# Altium footprint library QUTMS_PCBLibrary.PcbLib: 32 footprints (part 2 of 2)
Each footprint in its own frame and in the unit in brackets; x right, y up, seen from the top. Pads: shape width x height; smd on the part's side, far side on the other; paste and mask are expansions set on the pad; w line width, h text height; cw(c..) or ccw(c..) is an arc to the next point about the centre after c.
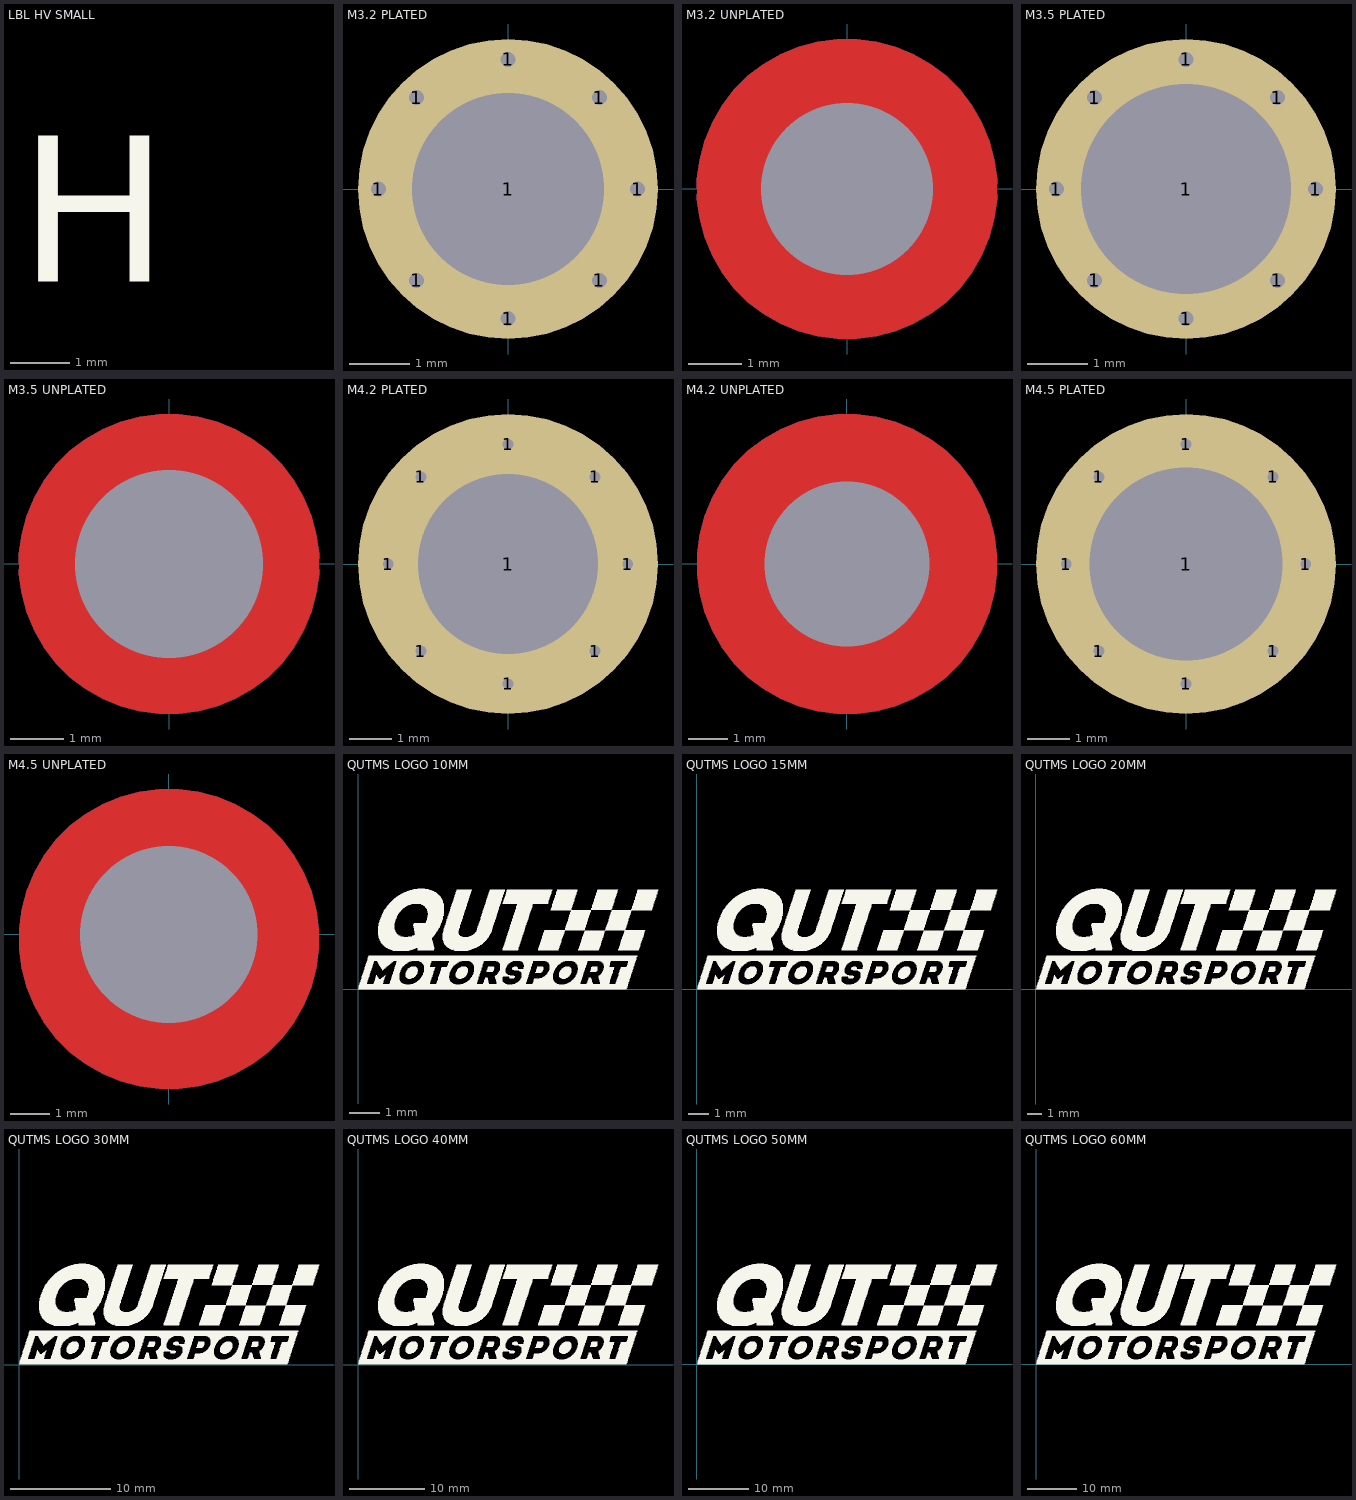
[diagram p1: the footprints below, top view; thin cyan lines are the x and y axes]

## LBL HV SMALL [mil]
Top Overlay:
  text "H" at -393.7,-393.7 h200

## M3.2 PLATED [mil]
pads (9):
  round 20 hole 10: 1(-85,0) 1(-60,-60) 1(-60,60) 1(0,-85) 1(0,85) 1(60,-60) 1(60,60) 1(85,0)
  round 196.85 hole 125.98: 1(0,0)

## M3.2 UNPLATED [mm]
pads (1):
  round 0 hole 3.2 unplated mask+2.6: 1(0,0)
Top Layer:
  pour cut-out: 0,-2.794 -0.183,-2.794 -0.546,-2.746 -0.9,-2.651 -1.238,-2.511 -1.556,-2.328 -1.846,-2.105 -2.105,-1.846 -2.328,-1.556 -2.511,-1.238 -2.651,-0.9 -2.746,-0.546 -2.794,-0.183 -2.794,0 -2.794,0.183 -2.746,0.546 -2.651,0.9 -2.511,1.238 -2.328,1.556 -2.105,1.846 -1.846,2.105 -1.556,2.328 -1.238,2.511 -0.9,2.651 -0.546,2.746 -0.183,2.794 0,2.794 0.183,2.794 0.546,2.746 0.9,2.651 1.238,2.511 1.556,2.328 1.846,2.105 2.105,1.846 2.328,1.556 2.511,1.238 2.651,0.9 2.746,0.546 2.794,0.183 2.794,0 2.794,-0.183 2.746,-0.546 2.651,-0.9 2.511,-1.238 2.328,-1.556 2.105,-1.846 1.846,-2.105 1.556,-2.328 1.238,-2.511 0.9,-2.651 0.546,-2.746 0.183,-2.794
Bottom Layer:
  pour cut-out: 0,-2.794 -0.183,-2.794 -0.546,-2.746 -0.9,-2.651 -1.238,-2.511 -1.556,-2.328 -1.846,-2.105 -2.105,-1.846 -2.328,-1.556 -2.511,-1.238 -2.651,-0.9 -2.746,-0.546 -2.794,-0.183 -2.794,0 -2.794,0.183 -2.746,0.546 -2.651,0.9 -2.511,1.238 -2.328,1.556 -2.105,1.846 -1.846,2.105 -1.556,2.328 -1.238,2.511 -0.9,2.651 -0.546,2.746 -0.183,2.794 0,2.794 0.183,2.794 0.546,2.746 0.9,2.651 1.238,2.511 1.556,2.328 1.846,2.105 2.105,1.846 2.328,1.556 2.511,1.238 2.651,0.9 2.746,0.546 2.794,0.183 2.794,0 2.794,-0.183 2.746,-0.546 2.651,-0.9 2.511,-1.238 2.328,-1.556 2.105,-1.846 1.846,-2.105 1.556,-2.328 1.238,-2.511 0.9,-2.651 0.546,-2.746 0.183,-2.794

## M3.5 PLATED [mil]
pads (9):
  round 20 hole 10: 1(-85,0) 1(-60,-60) 1(-60,60) 1(0,-85) 1(0,85) 1(60,-60) 1(60,60) 1(85,0)
  round 196.85 hole 137.8: 1(0,0)

## M3.5 UNPLATED [mm]
pads (1):
  round 0 hole 3.5 unplated mask+2.6: 1(0,0)
Top Layer:
  pour cut-out: 0,-2.794 -0.183,-2.794 -0.546,-2.746 -0.9,-2.651 -1.238,-2.511 -1.556,-2.328 -1.846,-2.105 -2.105,-1.846 -2.328,-1.556 -2.511,-1.238 -2.651,-0.9 -2.746,-0.546 -2.794,-0.183 -2.794,0 -2.794,0.183 -2.746,0.546 -2.651,0.9 -2.511,1.238 -2.328,1.556 -2.105,1.846 -1.846,2.105 -1.556,2.328 -1.238,2.511 -0.9,2.651 -0.546,2.746 -0.183,2.794 0,2.794 0.183,2.794 0.546,2.746 0.9,2.651 1.238,2.511 1.556,2.328 1.846,2.105 2.105,1.846 2.328,1.556 2.511,1.238 2.651,0.9 2.746,0.546 2.794,0.183 2.794,0 2.794,-0.183 2.746,-0.546 2.651,-0.9 2.511,-1.238 2.328,-1.556 2.105,-1.846 1.846,-2.105 1.556,-2.328 1.238,-2.511 0.9,-2.651 0.546,-2.746 0.183,-2.794
Bottom Layer:
  pour cut-out: 0,-2.794 -0.183,-2.794 -0.546,-2.746 -0.9,-2.651 -1.238,-2.511 -1.556,-2.328 -1.846,-2.105 -2.105,-1.846 -2.328,-1.556 -2.511,-1.238 -2.651,-0.9 -2.746,-0.546 -2.794,-0.183 -2.794,0 -2.794,0.183 -2.746,0.546 -2.651,0.9 -2.511,1.238 -2.328,1.556 -2.105,1.846 -1.846,2.105 -1.556,2.328 -1.238,2.511 -0.9,2.651 -0.546,2.746 -0.183,2.794 0,2.794 0.183,2.794 0.546,2.746 0.9,2.651 1.238,2.511 1.556,2.328 1.846,2.105 2.105,1.846 2.328,1.556 2.511,1.238 2.651,0.9 2.746,0.546 2.794,0.183 2.794,0 2.794,-0.183 2.746,-0.546 2.651,-0.9 2.511,-1.238 2.328,-1.556 2.105,-1.846 1.846,-2.105 1.556,-2.328 1.238,-2.511 0.9,-2.651 0.546,-2.746 0.183,-2.794

## M4.2 PLATED [mil]
pads (9):
  round 20 hole 10: 1(-110,0) 1(-80,-80) 1(-80,80) 1(0,-110) 1(0,110) 1(80,-80) 1(80,80) 1(110,0)
  round 275.59 hole 165.35: 1(0,0)

## M4.2 UNPLATED [mm]
pads (1):
  round 0 hole 4.2 unplated mask+3.6: 1(0,0)
Top Layer:
  pour cut-out: 0,-3.81 -0.25,-3.81 -0.745,-3.745 -1.227,-3.616 -1.689,-3.424 -2.121,-3.175 -2.518,-2.871 -2.871,-2.518 -3.175,-2.121 -3.424,-1.689 -3.616,-1.227 -3.745,-0.745 -3.81,-0.25 -3.81,0 -3.81,0.25 -3.745,0.745 -3.616,1.227 -3.424,1.689 -3.175,2.121 -2.871,2.517 -2.518,2.871 -2.121,3.175 -1.689,3.424 -1.227,3.616 -0.745,3.745 -0.25,3.81 0,3.81 0.25,3.81 0.745,3.745 1.227,3.616 1.689,3.424 2.121,3.175 2.517,2.871 2.871,2.518 3.175,2.121 3.424,1.689 3.616,1.227 3.745,0.745 3.81,0.25 3.81,0 3.81,-0.25 3.745,-0.745 3.616,-1.227 3.424,-1.689 3.175,-2.121 2.871,-2.518 2.518,-2.871 2.121,-3.175 1.689,-3.424 1.227,-3.616 0.745,-3.745 0.25,-3.81
Bottom Layer:
  pour cut-out: 0,-3.81 -0.25,-3.81 -0.745,-3.745 -1.227,-3.616 -1.689,-3.424 -2.121,-3.175 -2.518,-2.871 -2.871,-2.518 -3.175,-2.121 -3.424,-1.689 -3.616,-1.227 -3.745,-0.745 -3.81,-0.25 -3.81,0 -3.81,0.25 -3.745,0.745 -3.616,1.227 -3.424,1.689 -3.175,2.121 -2.871,2.517 -2.518,2.871 -2.121,3.175 -1.689,3.424 -1.227,3.616 -0.745,3.745 -0.25,3.81 0,3.81 0.25,3.81 0.745,3.745 1.227,3.616 1.689,3.424 2.121,3.175 2.518,2.871 2.871,2.518 3.175,2.121 3.424,1.689 3.616,1.227 3.745,0.745 3.81,0.25 3.81,0 3.81,-0.25 3.745,-0.745 3.616,-1.227 3.424,-1.689 3.175,-2.121 2.871,-2.518 2.518,-2.871 2.121,-3.175 1.689,-3.424 1.227,-3.616 0.745,-3.745 0.25,-3.81

## M4.5 PLATED [mil]
pads (9):
  round 20 hole 10: 1(-110,0) 1(-80,-80) 1(-80,80) 1(0,-110) 1(0,110) 1(80,-80) 1(80,80) 1(110,0)
  round 275.59 hole 177.17: 1(0,0)

## M4.5 UNPLATED [mm]
pads (1):
  round 0 hole 4.5 unplated mask+3.6: 1(0,0)
Top Layer:
  pour cut-out: 0.006,-3.927 -0.243,-3.927 -0.739,-3.862 -1.221,-3.732 -1.683,-3.541 -2.115,-3.291 -2.511,-2.987 -2.864,-2.634 -3.168,-2.238 -3.418,-1.805 -3.609,-1.344 -3.739,-0.862 -3.804,-0.366 -3.804,-0.117 -3.804,0.133 -3.739,0.628 -3.609,1.111 -3.418,1.572 -3.168,2.005 -2.864,2.401 -2.511,2.754 -2.115,3.058 -1.682,3.308 -1.221,3.499 -0.739,3.628 -0.243,3.693 0.006,3.693 0.256,3.693 0.751,3.628 1.234,3.499 1.695,3.308 2.128,3.058 2.524,2.754 2.877,2.401 3.181,2.005 3.431,1.572 3.622,1.111 3.751,0.628 3.816,0.133 3.816,-0.117 3.816,-0.366 3.751,-0.862 3.622,-1.344 3.431,-1.805 3.181,-2.238 2.877,-2.634 2.524,-2.987 2.128,-3.291 1.695,-3.541 1.234,-3.732 0.751,-3.862 0.256,-3.927
Bottom Layer:
  pour cut-out: 0.006,-3.927 -0.243,-3.927 -0.739,-3.862 -1.221,-3.732 -1.682,-3.541 -2.115,-3.291 -2.511,-2.987 -2.864,-2.634 -3.168,-2.238 -3.418,-1.805 -3.609,-1.344 -3.739,-0.862 -3.804,-0.366 -3.804,-0.117 -3.804,0.133 -3.739,0.628 -3.609,1.111 -3.418,1.572 -3.168,2.005 -2.864,2.401 -2.511,2.754 -2.115,3.058 -1.682,3.308 -1.221,3.499 -0.739,3.628 -0.243,3.693 0.006,3.693 0.256,3.693 0.751,3.628 1.234,3.499 1.695,3.308 2.128,3.058 2.524,2.754 2.877,2.401 3.181,2.005 3.431,1.572 3.622,1.111 3.751,0.628 3.816,0.133 3.816,-0.117 3.816,-0.366 3.751,-0.862 3.622,-1.344 3.431,-1.805 3.181,-2.238 2.877,-2.634 2.524,-2.987 2.128,-3.291 1.695,-3.541 1.234,-3.732 0.751,-3.862 0.256,-3.927

## QUTMS LOGO 10MM [mil]
Top Overlay:
  drawing of 14 lines, arcs and shapes, not listed

## QUTMS LOGO 15MM [mil]
Top Overlay:
  drawing of 14 lines, arcs and shapes, not listed

## QUTMS LOGO 20MM [mil]
Top Overlay:
  drawing of 14 lines, arcs and shapes, not listed

## QUTMS LOGO 30MM [mil]
Top Overlay:
  drawing of 14 lines, arcs and shapes, not listed

## QUTMS LOGO 40MM [mil]
Top Overlay:
  drawing of 14 lines, arcs and shapes, not listed

## QUTMS LOGO 50MM [mil]
Top Overlay:
  drawing of 14 lines, arcs and shapes, not listed

## QUTMS LOGO 60MM [mil]
Top Overlay:
  drawing of 14 lines, arcs and shapes, not listed